# EAGLE library part MP6538 (library LARS_409_MC)
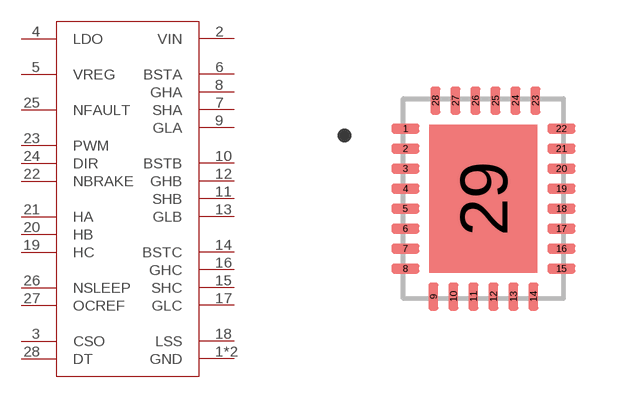
[diagram p27: symbol with the pads of QFN28_5X4; footprint QFN28_5X4]

Designator prefix U

## MP6538U  [QFN28_5X4]
1  GND
2  VIN
3  CSO
4  LDO
5  VREG
6  BSTA
7  SHA
8  GHA
9  GLA
10  BSTB
11  SHB
12  GHB
13  GLB
14  BSTC
15  SHC
16  GHC
17  GLC
18  LSS
19  HC
20  HB
21  HA
22  NBRAKE
23  PWM
24  DIR
25  NFAULT
26  NSLEEP
27  OCREF
28  DT
29  GND

## Footprint QFN28_5X4 (pad centres in mm)
smd 0.7 x 0.25: 1 -1.95,1.75; 2 -1.95,1.25; 3 -1.95,0.75; 4 -1.95,0.25; 5 -1.95,-0.25; 6 -1.95,-0.75; 7 -1.95,-1.25; 8 -1.95,-1.75; 15 1.95,-1.75; 16 1.95,-1.25; 17 1.95,-0.75; 18 1.95,-0.25; 19 1.95,0.25; 20 1.95,0.75; 21 1.95,1.25; 22 1.95,1.75
smd 0.25 x 0.7: 9 -1.25,-2.45; 10 -0.75,-2.45; 11 -0.25,-2.45; 12 0.25,-2.45; 13 0.75,-2.45; 14 1.25,-2.45; 23 1.3,2.45; 24 0.8,2.45; 25 0.3,2.45; 26 -0.2,2.45; 27 -0.7,2.45; 28 -1.2,2.45
smd 2.7 x 3.7: 29 0,0